# Altium footprint library General.PcbLib: 27 footprints (part 1 of 2)
Each footprint in its own frame and in the unit in brackets; x right, y up, seen from the top. Pads: shape width x height; smd on the part's side, far side on the other; paste and mask are expansions set on the pad; w line width, h text height; cw(c..) or ccw(c..) is an arc to the next point about the centre after c.
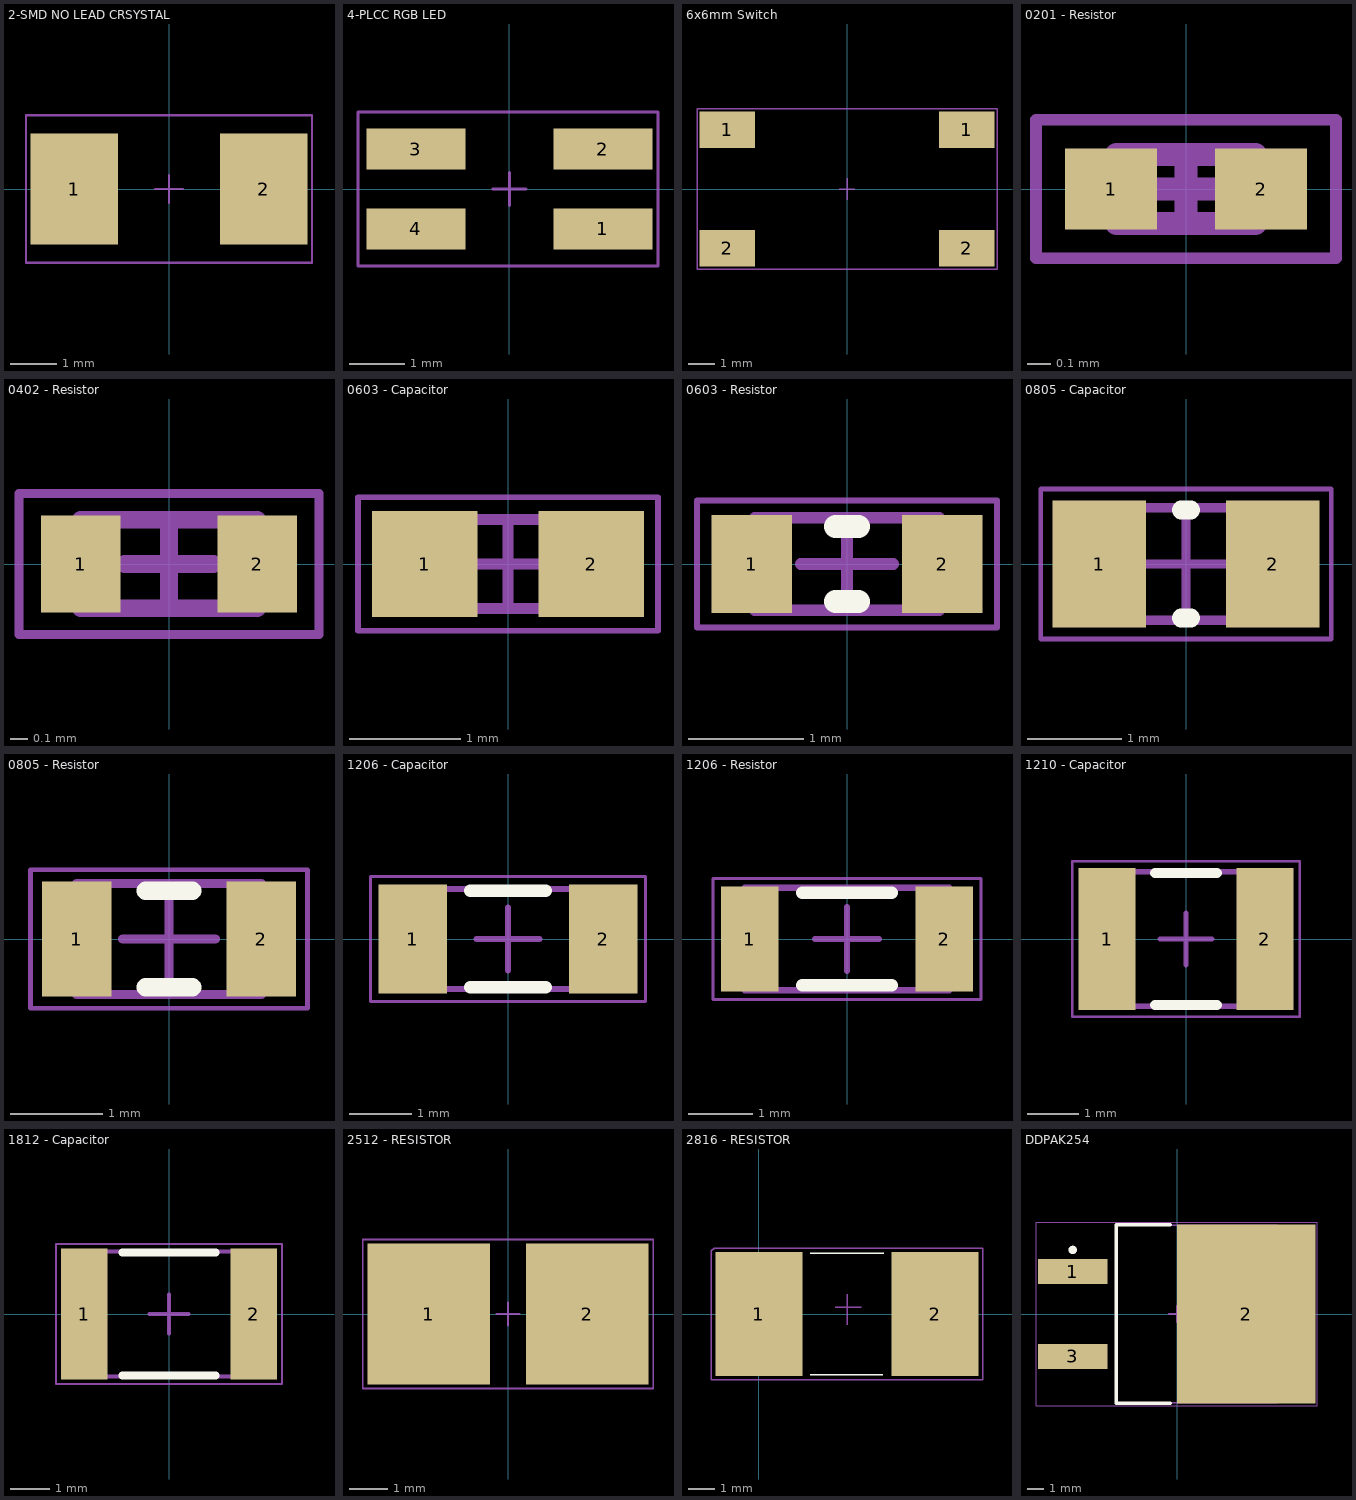
[diagram p0: the footprints below, top view; thin cyan lines are the x and y axes]

## 2-SMD NO LEAD CRSYSTAL [mm]
pads (2):
  rect 1.9x2.4 smd: 1(-2.05,0) 2(2.05,0)
Mechanical 15:
  lines w0.05: -0.3,0 0.3,0 ; 0,-0.3 0,0.3 ; -3.1,-1.6 -3.1,0.9 -3.1,1.6 3.1,1.6 3.1,-1.6 -3.1,-1.6
3D body "ABM3.STEP": height 1.3, standoff 0, extent -2.5,-1.6 2.5,1.6

## 4-PLCC RGB LED [mm]
pads (4):
  rect 1.8x0.75 smd: 1(1.7,-0.725) 2(1.7,0.725) 3(-1.7,0.725) 4(-1.7,-0.725)
Mechanical 15:
  lines w0.05: -0.3,0 0.3,0 ; 0,-0.3 0,0.3 ; -2.75,-1.4 2.7,-1.4 2.7,1.4 -2.5,1.4 -2.75,1.4 -2.75,-1.4
3D body "XZxxxx45.step": height 1.9, standoff 0, extent -1.75,-1.4 1.75,1.4

## 6x6mm Switch [mm]
pads (4):
  rect 2.1x1.4 smd: 1(-4.55,2.25) 1(4.55,2.25) 2(-4.55,-2.25) 2(4.55,-2.25)
Mechanical 15:
  lines w0.05: -0.3,0 0.3,0 ; 0,-0.4 0,0.4 ; -5.7,-3.05 5.7,-3.05 5.7,3.05 -5.7,3.05 -5.7,-3.05
3D body "TL3301AFxxxxG.stp": height 5.12, standoff 0.02, extent -5,-3 5,3

## 0201 - Resistor [mm] "0201 Chip Resistor - IPC Medium Density"
height 0.25
pads (2):
  rect 0.4x0.35 smd: 1(-0.325,0) 2(0.325,0)
Mechanical 13:
  lines w0.1: -0.3,-0.15 -0.3,0.15 0.3,0.15 0.3,-0.15 -0.3,-0.15
Mechanical 15:
  lines w0.05: -0.65,-0.3 -0.65,0.3 0.65,0.3 0.65,-0.3 -0.65,-0.3
  lines w0.1: -0.15,0 0.15,0 ; 0,-0.15 0,0.15
3D body "0201 - Resistor.step": height 0.25, standoff 0, extent -0.3,-0.15 0.3,0.15

## 0402 - Resistor [mm] "0402 Chip Resistor - IPC Medium Density"
height 0.35
pads (2):
  rect 0.45x0.55 smd: 1(-0.5,0) 2(0.5,0)
Mechanical 13:
  lines w0.1: -0.5,-0.25 -0.5,0.25 0.5,0.25 0.5,-0.25 -0.5,-0.25
Mechanical 15:
  lines w0.05: -0.85,-0.4 -0.85,0.4 0.85,0.4 0.85,-0.4 -0.85,-0.4
  lines w0.1: -0.25,0 0.25,0 ; 0,-0.25 0,0.25
3D body "0402 - Resistor.step": height 0.35, standoff 0, extent -0.5,-0.25 0.5,0.25

## 0603 - Capacitor [mm] "0603 Chip Capacitor - IPC Medium Density"
height 0.8
pads (2):
  rect 0.95x0.95 smd: 1(-0.75,0) 2(0.75,0)
Mechanical 13:
  lines w0.1: -0.8,-0.4 0.8,-0.4 0.8,0.4 -0.8,0.4 -0.8,-0.4
Mechanical 15:
  lines w0.05: -1.35,-0.6 1.35,-0.6 1.35,0.6 -1.35,0.6 -1.35,-0.6
  lines w0.1: -0.4,0 0.4,0 ; 0,-0.4 0,0.4
3D body "0603 Capacitor.step": height 0.8, standoff 0, extent -0.8,-0.4 0.8,0.4

## 0603 - Resistor [mm] "0603 Chip Resistor - IPC Medium Density"
height 0.45
pads (2):
  rect 0.7x0.85 smd: 1(-0.825,0) 2(0.825,0)
Top Overlay:
  lines w0.2: -0.1,-0.325 0.1,-0.325 ; -0.1,0.325 0.1,0.325
Mechanical 13:
  lines w0.1: -0.8,-0.4 -0.8,0.4 0.8,0.4 0.8,-0.4 -0.8,-0.4
Mechanical 15:
  lines w0.05: -1.3,-0.55 -1.3,0.55 1.3,0.55 1.3,-0.55 -1.3,-0.55
  lines w0.1: -0.4,0 0.4,0 ; 0,-0.4 0,0.4
3D body "0603 - Resistor.step": height 0.45, standoff 0, extent -0.8,-0.4 0.8,0.4

## 0805 - Capacitor [mm] "0805 Chip Capacitor - IPC Medium Density"
height 1.2
pads (2):
  rect 1x1.35 smd: 1(-0.925,0) 2(0.925,0)
Top Overlay:
  lines w0.2: -0.05,-0.575 0.05,-0.575 ; -0.05,0.575 0.05,0.575
Mechanical 13:
  lines w0.1: -1,-0.6 -1,0.6 1,0.6 1,-0.6 -1,-0.6
Mechanical 15:
  lines w0.05: -1.55,-0.8 -1.55,0.8 1.55,0.8 1.55,-0.8 -1.55,-0.8
  lines w0.1: -0.5,0 0.5,0 ; 0,-0.5 0,0.5
3D body "0805 - Capacitor.step": height 1.2, standoff 0, extent -1,-0.6 1,0.6

## 0805 - Resistor [mm] "0805 Chip Resistor - IPC Medium Density"
height 0.5
pads (2):
  rect 0.75x1.25 smd: 1(-1,0) 2(1,0)
Top Overlay:
  lines w0.2: -0.25,-0.525 0.25,-0.525 ; -0.25,0.525 0.25,0.525
Mechanical 13:
  lines w0.1: -1,-0.6 1,-0.6 1,0.6 -1,0.6 -1,-0.6
Mechanical 15:
  lines w0.05: -1.5,-0.75 1.5,-0.75 1.5,0.75 -1.5,0.75 -1.5,-0.75
  lines w0.1: -0.5,0 0.5,0 ; 0,-0.5 0,0.5
3D body "0805 Resistor.step": height 0.5, standoff 0, extent -1,-0.6 1,0.6

## 1206 - Capacitor [mm] "1206 Chip Capacitor - IPC Medium Density"
height 1.6
pads (2):
  rect 1.1x1.75 smd: 1(-1.525,0) 2(1.525,0)
Top Overlay:
  lines w0.2: -0.6,-0.775 0.6,-0.775 ; -0.6,0.775 0.6,0.775
Mechanical 13:
  lines w0.1: -1.65,-0.8 -1.65,0.8 1.65,0.8 1.65,-0.8 -1.65,-0.8
Mechanical 15:
  lines w0.05: -2.2,-1 -2.2,1 2.2,1 2.2,-1 -2.2,-1
  lines w0.1: -0.5,0 0.5,0 ; 0,-0.5 0,0.5
3D body "1206 - Capacitor.step": height 1.6, standoff 0, extent -1.65,-0.8 1.65,0.8

## 1206 - Resistor [mm] "1206 Chip Resistor - IPC Medium Density"
height 0.55
pads (2):
  rect 0.9x1.65 smd: 1(-1.525,0) 2(1.525,0)
Top Overlay:
  lines w0.2: -0.7,-0.725 0.7,-0.725 ; -0.7,0.725 0.7,0.725
Mechanical 13:
  lines w0.1: -1.6,-0.8 1.6,-0.8 1.6,0.8 -1.6,0.8 -1.6,-0.8
Mechanical 15:
  lines w0.05: -2.1,-0.95 2.1,-0.95 2.1,0.95 -2.1,0.95 -2.1,-0.95
  lines w0.1: -0.5,0 0.5,0 ; 0,-0.5 0,0.5
3D body "1206 - Resistor.step": height 0.55, standoff 0, extent -1.6,-0.8 1.6,0.8

## 1210 - Capacitor [mm] "1210 Chip Capacitor - IPC Medium Density"
height 1.6
pads (2):
  rect 1.1x2.75 smd: 1(-1.525,0) 2(1.525,0)
Top Overlay:
  lines w0.2: -0.6,-1.275 0.6,-1.275 ; -0.6,1.275 0.6,1.275
Mechanical 13:
  lines w0.1: -1.65,-1.3 1.65,-1.3 1.65,1.3 -1.65,1.3 -1.65,-1.3
Mechanical 15:
  lines w0.05: -2.2,-1.5 2.2,-1.5 2.2,1.5 -2.2,1.5 -2.2,-1.5
  lines w0.1: -0.5,0 0.5,0 ; 0,-0.5 0,0.5
3D body "1210 - Capacitor.step": height 1.6, standoff 0, extent -1.65,-1.3 1.65,1.3

## 1812 - Capacitor [mm] "1812 Chip Capacitor - IPC Medium Density"
height 2
pads (2):
  rect 1.2x3.35 smd: 1(-2.175,0) 2(2.175,0)
Top Overlay:
  lines w0.2: -1.2,-1.575 1.2,-1.575 ; -1.2,1.575 1.2,1.575
Mechanical 13:
  lines w0.1: -2.35,-1.6 -2.35,1.6 2.35,1.6 2.35,-1.6 -2.35,-1.6
Mechanical 15:
  lines w0.05: -2.9,-1.8 -2.9,1.8 2.9,1.8 2.9,-1.8 -2.9,-1.8
  lines w0.1: -0.5,0 0.5,0 ; 0,-0.5 0,0.5
3D body "1812 - Capacitor.step": height 2, standoff 0, extent -2.35,-1.6 2.35,1.6

## 2512 - RESISTOR [mm]
pads (2):
  rect 3.2x3.7 smd: 1(-2.075,0) 2(2.075,0)
Mechanical 15:
  lines w0.05: -0.3,0 0.3,0 ; 0,-0.3 0,0.3 ; -3.8,-1.95 -3.8,1.95 3.8,1.95 3.8,-1.95 -3.8,-1.95
3D body "R_2512_6332Metric.step": height 0.6, standoff 0, extent -3.15,-1.6 3.15,1.6

## 2816 - RESISTOR [mm]
pads (2):
  rect 3.3x4.7 smd: 1(0,0) 2(6.7,0)
Top Overlay:
  lines w0.05: 1.95,-2.3 4.7,-2.3 ; 1.95,2.3 4.75,2.3
Mechanical 15:
  lines w0.05: 2.9,0.25 3.9,0.25 ; 3.35,-0.4 3.35,0.75 ; -1.8,-2.5 8.5,-2.5 8.5,2.5 -1.7,2.5 -1.8,2.4 -1.8,-2.5
3D body "c-2176402-8-a-3d.stp": height 1.1, standoff 0, extent -0.25,-2.1 6.85,2.1

## DDPAK254 [mm] "D2-PAK, 3-Pads, Body 7.93x8.70mm (max), IPC Medium Density"
height 4.83
pads (3):
  rect 4.15x1.5 smd: 1(-6.25,2.54) 3(-6.25,-2.54)
  rect 8.3x10.75 smd: 2(4.15,0)
Top Overlay:
  circle w0.25: c-6.25,3.84 r0.125
  lines w0.2: -0.4,-5.35 -3.65,-5.35 -3.65,5.35 -0.4,5.35
Mechanical 13:
  lines w0.1: -3.65,-5.325 -3.65,5.325 6,5.325 6,-5.325 -3.65,-5.325
Mechanical 15:
  lines w0.05: -8.45,-5.5 -8.45,5.5 8.4,5.5 8.4,-5.5 -8.45,-5.5
  lines w0.1: -0.5,0 0.5,0 ; 0,-0.5 0,0.5
3D body "DPAK254P1524X483-3N.step": height 4.96, standoff 0, extent -6.92,-5.325 8.325,5.325